# EAGLE library part STWLC68JRH (library SamacSys_Parts)
Wireless Charging ICs Qi-compliant inductive wireless power receiver for 5W applications Source: Datasheet <https://componentsearchengine.com/Datasheets/1/STWLC68JRH.pdf>
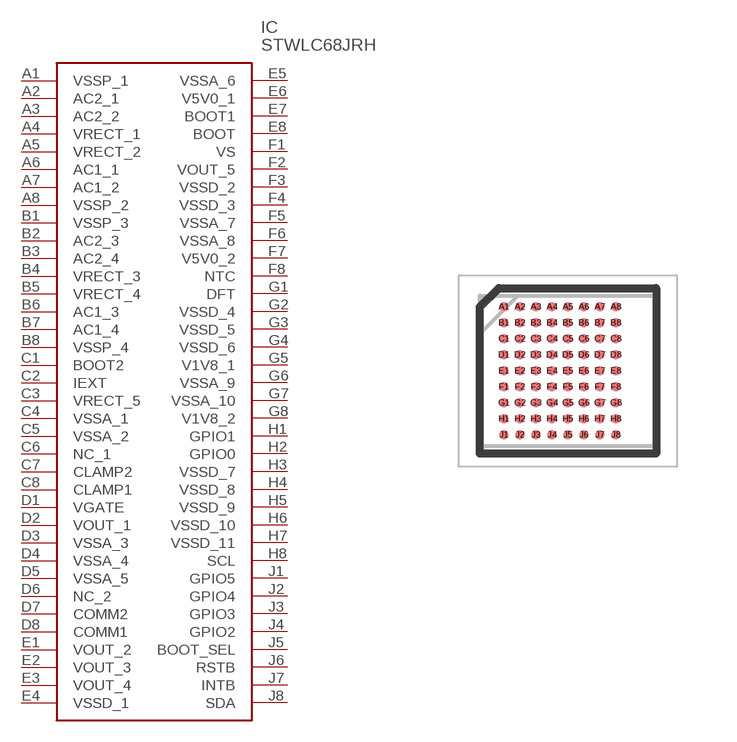
[diagram p0: symbol with the pads of BGA72C40P9X9_441X376X58; footprint BGA72C40P9X9_441X376X58]

Designator prefix IC

## STWLC68JRH (DESCRIPTION: Wireless Charging ICs Qi-compliant inductive wireless power receiver for 5W applications; HEIGHT: 0.585mm; MANUFACTURER_NAME: STMicroelectronics; MANUFACTURER_PART_NUMBER: STWLC68JRH; MOUSER_PART_NUMBER: 511-STWLC68JRH; MOUSER_PRICE-STOCK: https://www.mouser.co.uk/ProductDetail/STMicroelectronics/STWLC68JRH?qs=GBLSl2AkirtnTJOZ01bmug%3D%3D)  [BGA72C40P9X9_441X376X58]
A1  VSSP_1
A2  AC2_1
A3  AC2_2
A4  VRECT_1
A5  VRECT_2
A6  AC1_1
A7  AC1_2
A8  VSSP_2
B1  VSSP_3
B2  AC2_3
B3  AC2_4
B4  VRECT_3
B5  VRECT_4
B6  AC1_3
B7  AC1_4
B8  VSSP_4
C1  BOOT2
C2  IEXT
C3  VRECT_5
C4  VSSA_1
C5  VSSA_2
C6  NC_1
C7  CLAMP2
C8  CLAMP1
D1  VGATE
D2  VOUT_1
D3  VSSA_3
D4  VSSA_4
D5  VSSA_5
D6  NC_2
D7  COMM2
D8  COMM1
E1  VOUT_2
E2  VOUT_3
E3  VOUT_4
E4  VSSD_1
E5  VSSA_6
E6  V5V0_1
E7  BOOT1
E8  BOOT
F1  VS
F2  VOUT_5
F3  VSSD_2
F4  VSSD_3
F5  VSSA_7
F6  VSSA_8
F7  V5V0_2
F8  NTC
G1  DFT
G2  VSSD_4
G3  VSSD_5
G4  VSSD_6
G5  V1V8_1
G6  VSSA_9
G7  VSSA_10
G8  V1V8_2
H1  GPIO1
H2  GPIO0
H3  VSSD_7
H4  VSSD_8
H5  VSSD_9
H6  VSSD_10
H7  VSSD_11
H8  SCL
J1  GPIO5
J2  GPIO4
J3  GPIO3
J4  GPIO2
J5  BOOT_SEL
J6  RSTB
J7  INTB
J8  SDA

## Footprint BGA72C40P9X9_441X376X58 (pad centres in mm)
WLCSP72 3.265x3.674x0.6 0.4 Pitch 0.25 Ball package outline
smd 0.242 x 0.242: A1 -1.6,1.6; A2 -1.2,1.6; A3 -0.8,1.6; A4 -0.4,1.6; A5 0,1.6; A6 0.4,1.6; A7 0.8,1.6; A8 1.2,1.6; B1 -1.6,1.2; B2 -1.2,1.2; B3 -0.8,1.2; B4 -0.4,1.2; B5 0,1.2; B6 0.4,1.2; B7 0.8,1.2; B8 1.2,1.2; C1 -1.6,0.8; C2 -1.2,0.8; C3 -0.8,0.8; C4 -0.4,0.8; C5 0,0.8; C6 0.4,0.8; C7 0.8,0.8; C8 1.2,0.8; D1 -1.6,0.4; D2 -1.2,0.4; D3 -0.8,0.4; D4 -0.4,0.4; D5 0,0.4; D6 0.4,0.4; D7 0.8,0.4; D8 1.2,0.4; E1 -1.6,0; E2 -1.2,0; E3 -0.8,0; E4 -0.4,0; E5 0,0; E6 0.4,0; E7 0.8,0; E8 1.2,0; F1 -1.6,-0.4; F2 -1.2,-0.4; F3 -0.8,-0.4; F4 -0.4,-0.4; F5 0,-0.4; F6 0.4,-0.4; F7 0.8,-0.4; F8 1.2,-0.4; G1 -1.6,-0.8; G2 -1.2,-0.8; G3 -0.8,-0.8; G4 -0.4,-0.8; G5 0,-0.8; G6 0.4,-0.8; G7 0.8,-0.8; G8 1.2,-0.8; H1 -1.6,-1.2; H2 -1.2,-1.2; H3 -0.8,-1.2; H4 -0.4,-1.2; H5 0,-1.2; H6 0.4,-1.2; H7 0.8,-1.2; H8 1.2,-1.2; J1 -1.6,-1.6; J2 -1.2,-1.6; J3 -0.8,-1.6; J4 -0.4,-1.6; J5 0,-1.6; J6 0.4,-1.6; J7 0.8,-1.6; J8 1.2,-1.6